# Altium footprint library IMU.PcbLib: 3 footprints
Each footprint in its own frame and in the unit in brackets; x right, y up, seen from the top. Pads: shape width x height; smd on the part's side, far side on the other; paste and mask are expansions set on the pad; w line width, h text height; cw(c..) or ccw(c..) is an arc to the next point about the centre after c.
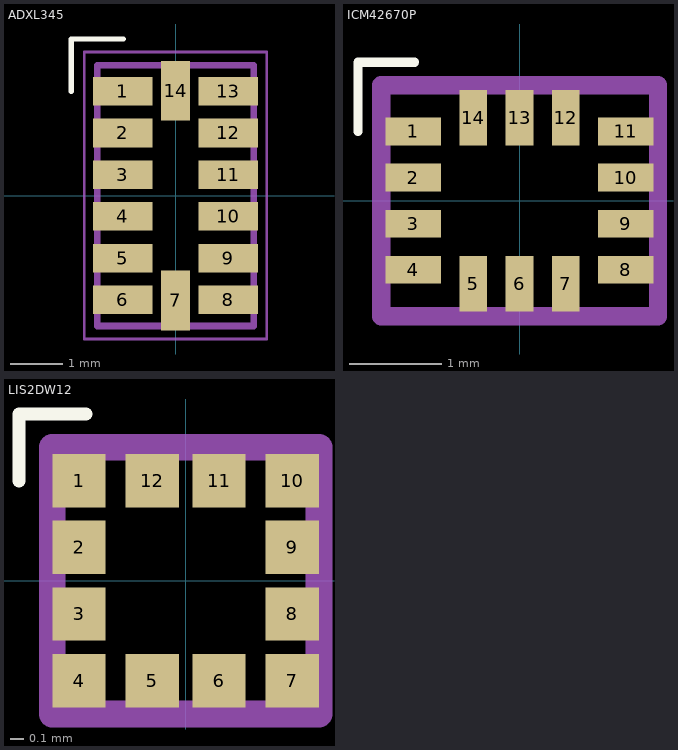
[diagram p0: the footprints below, top view; thin cyan lines are the x and y axes]

## ADXL345 [mm] "ACCEL 2-16G I2C/SPI 14LGA"
pads (14):
  rect 1.145x0.55 smd mask+0.05: 1(-1.01,2) 2(-1.01,1.2) 3(-1.01,0.4) 4(-1.01,-0.4) 5(-1.01,-1.2) 6(-1.01,-2) 8(1.01,-2) 9(1.01,-1.2) 10(1.01,-0.4) 11(1.01,0.4) 12(1.01,1.2) 13(1.01,2)
  rect 0.55x1.145 smd mask+0.05: 7(0,-2.01) 14(0,2.01)
Top Overlay:
  lines w0.1: -2,2 -2,3 -1,3
Mechanical 13:
  lines w0.127: -1.5,-2.5 1.5,-2.5 1.5,2.5 -1.5,2.5 -1.5,-2.5
Mechanical 15:
  lines w0.05: -1.75,-2.75 -1.75,2.75 1.75,2.75 1.75,-2.75 -1.75,-2.75
3D body "step_temp.STEP": height 1, standoff 0, extent -1.5,-2.5 1.5,2.5

## ICM42670P [mm] "IMU ACCEL/GYRO/TEMP I2C/SPI"
pads (14):
  rect 0.6x0.3 smd: 1(-1.15,0.75) 2(-1.15,0.25) 3(-1.15,-0.25) 4(-1.15,-0.75) 8(1.15,-0.75) 9(1.15,-0.25) 10(1.15,0.25) 11(1.15,0.75)
  rect 0.3x0.6 smd: 5(-0.5,-0.9) 6(0,-0.9) 7(0.5,-0.9) 12(0.5,0.9) 13(0,0.9) 14(-0.5,0.9)
Top Overlay:
  lines w0.1: -1.75,0.75 -1.75,1.5 -1.25,1.5 -1.138,1.5 -1.138,1.502
Mechanical 13:
  lines w0.2: -1.5,-1.25 -1.5,1.25 1.5,1.25 1.5,-1.25 -1.5,-1.25
3D body "ICM-42670-P.stp": height 0.65, standoff -0.11, extent -1.5,-1.25 1.5,1.25

## LIS2DW12 [mm] "ACCEL 2-16G I2C/SPI 12LGA"
pads (12):
  rect 0.4x0.4 smd: 1(-0.8,0.75) 2(-0.8,0.25) 3(-0.8,-0.25) 4(-0.8,-0.75) 5(-0.25,-0.75) 6(0.25,-0.75) 7(0.8,-0.75) 8(0.8,-0.25) 9(0.8,0.25) 10(0.8,0.75) 11(0.25,0.75) 12(-0.25,0.75)
Top Overlay:
  lines w0.1: -1.25,0.75 -1.25,1.25 -0.75,1.25
Mechanical 13:
  lines w0.2: -1,-1 -1,1 1,1 1,-1 -1,-1
3D body "LIS2DW12TR.stp": height 1, standoff 0, extent -1,-1 1,1